# EAGLE library part BQ2054PN (library texas_ffmc)
CHARGE MANAGEMENT IC
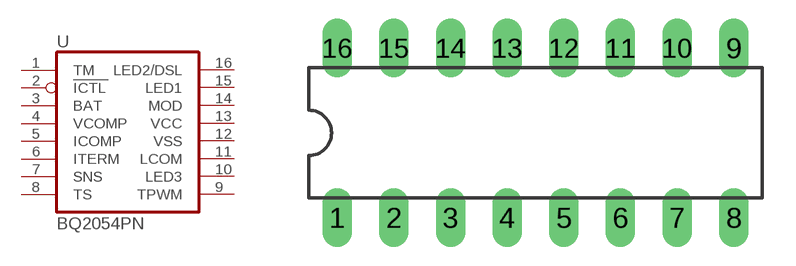
[diagram p0: symbol with the pads of DIL16; footprint DIL16]

Designator prefix U

## BQ2054PN (MF: TEXAS INSTRUMENT CONNECTORS; MPN: BQ2054PN; OC_FARNELL: 8407789; OC_NEWARK: 74C7582)  [DIL16]
1  TM  in
2  ICTL  out
3  BAT  in
4  VCOMP  in
5  ICOMP  in
6  ITERM  in
7  SNS  in
8  TS  in
9  TPWM  in
10  LED3  hiz
11  LCOM  out
12  VSS  pwr
13  VCC  pwr
14  MOD  out
15  LED1  hiz
16  LED2/DSL  hiz

## Footprint DIL16 (pad centres in mm)
Dual In Line Package
drill 0.813 long: 1 -8.89,-3.81; 2 -6.35,-3.81; 3 -3.81,-3.81; 4 -1.27,-3.81; 5 1.27,-3.81; 6 3.81,-3.81; 7 6.35,-3.81; 8 8.89,-3.81; 9 8.89,3.81; 10 6.35,3.81; 11 3.81,3.81; 12 1.27,3.81; 13 -1.27,3.81; 14 -3.81,3.81; 15 -6.35,3.81; 16 -8.89,3.81